# EAGLE library part DRV8833 (library CrickitCopy)
DRV8833 Dual H-Bridge Motor Driver -- HTSSOP Package
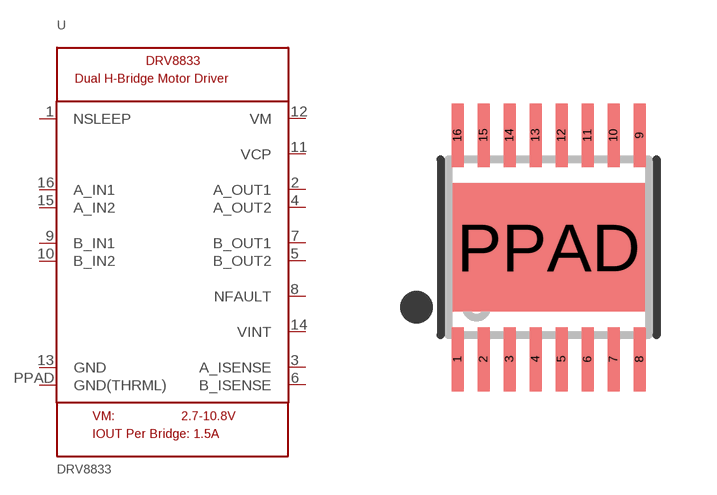
[diagram p2: symbol with the pads of HTSSOP16; footprint HTSSOP16]

Designator prefix U

## DRV8833  [HTSSOP16]
1  NSLEEP  in
2  A_OUT1  out
3  A_ISENSE
4  A_OUT2  out
5  B_OUT2  out
6  B_ISENSE
7  B_OUT1  out
8  NFAULT
9  B_IN1  in
10  B_IN2  in
11  VCP
12  VM  pwr
13  GND  pwr
14  VINT  pwr
15  A_IN2  in
16  A_IN1  in
PPAD  GND(THRML)  pwr

## Footprint HTSSOP16 (pad centres in mm)
HTSSOP 16 (5x4.4mm 0.65mm Pitch) Source: http://www.ti.com/lit/ds/slvsar1b/slvsar1b.pdf
smd 0.3 x 1.6: 1 -2.275,-2.8; 2 -1.625,-2.8; 3 -0.975,-2.8; 4 -0.325,-2.8; 5 0.325,-2.8; 6 0.975,-2.8; 7 1.625,-2.8; 8 2.275,-2.8; 9 2.275,2.8; 10 1.625,2.8; 11 0.975,2.8; 12 0.325,2.8; 13 -0.325,2.8; 14 -0.975,2.8; 15 -1.625,2.8; 16 -2.275,2.8
smd 4.8 x 3.2: PPAD 0,0